# Altium footprint library 74HCT245.PcbLib: 1 footprints
Each footprint in its own frame and in the unit in brackets; x right, y up, seen from the top. Pads: shape width x height; smd on the part's side, far side on the other; paste and mask are expansions set on the pad; w line width, h text height; cw(c..) or ccw(c..) is an arc to the next point about the centre after c.
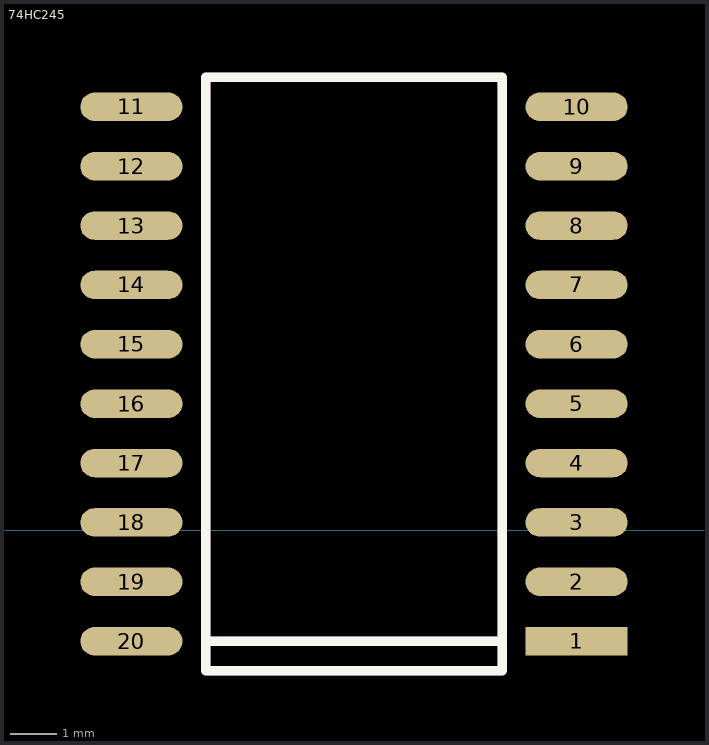
[diagram p0: the footprint, top view; thin cyan lines are the x and y axes]

## 74HC245 [mil]
pads (20):
  rect 86x24 smd: 1(609.6,-93.33)
  oval 86x24 smd: 2(609.6,-43.33) 3(609.6,6.67) 4(609.6,56.67) 5(609.6,106.67) 6(609.6,156.67) 7(609.6,206.67) 8(609.6,256.67) 9(609.6,306.67) 10(609.6,356.67) 11(234.6,356.67) 12(234.6,306.67) 13(234.6,256.67) 14(234.6,206.67) 15(234.6,156.67) 16(234.6,106.67) 17(234.6,56.67) 18(234.6,6.67) 19(234.6,-43.33) 20(234.6,-93.33)
Top Overlay:
  lines w8: 297.1,-93.33 547.1,-93.33 ; 297.1,-118.33 547.1,-118.33 547.1,381.67 297.1,381.67 297.1,-118.33
Mechanical 1:
  lines w8: 297.1,-93.33 547.1,-93.33 ; 297.1,-118.33 547.1,-118.33 547.1,381.67 297.1,381.67 297.1,-118.33